# Altium footprint library footprints_pool.PcbLib: 1 footprints
Each footprint in its own frame and in the unit in brackets; x right, y up, seen from the top. Pads: shape width x height; smd on the part's side, far side on the other; paste and mask are expansions set on the pad; w line width, h text height; cw(c..) or ccw(c..) is an arc to the next point about the centre after c.
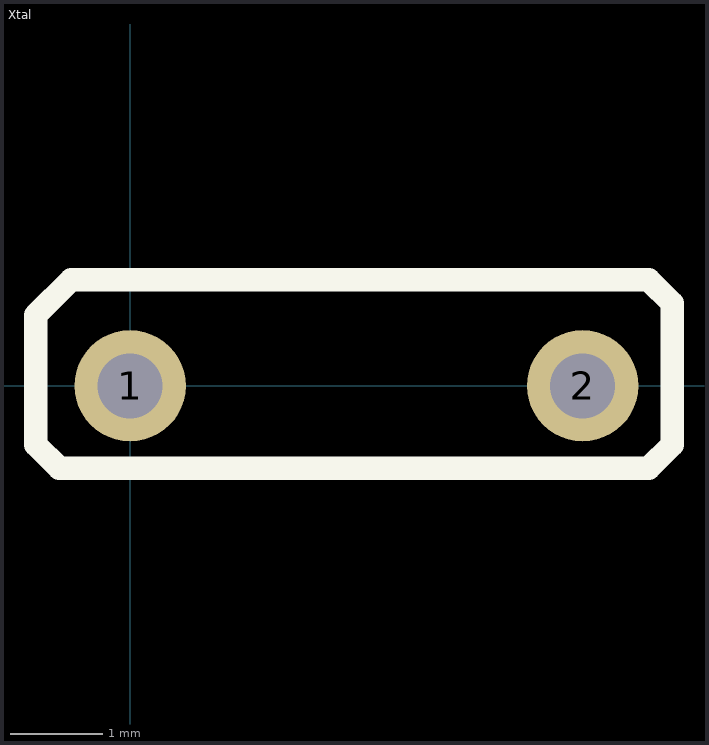
[diagram p0: the footprint, top view; thin cyan lines are the x and y axes]

## Xtal [mm]
pads (2):
  round 1.2 hole 0.7: 1(0,0) 2(4.877,0)
Top Overlay:
  lines w0.254: -0.508,1.143 -0.635,1.143 ; -0.635,1.143 5.588,1.143 5.842,0.889 5.842,-0.635 5.588,-0.889 -0.762,-0.889 -1.016,-0.635 -1.016,0.762 -0.635,1.143